# EAGLE library part SP721APP (library SolarJackets_Common)
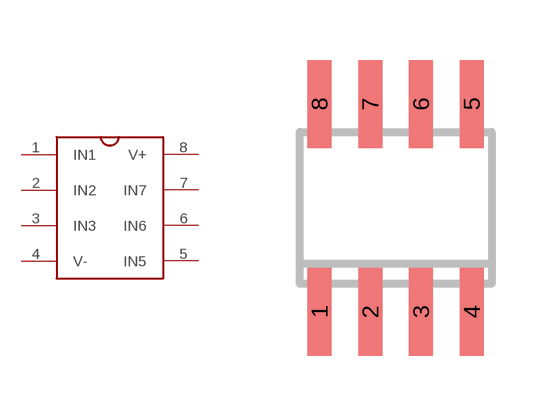
[diagram p0: symbol with the pads of SO-08; footprint SO-08]

Designator prefix -

## SP721APP  [SO-08]
1  IN1
2  IN2
3  IN3
4  V-
5  IN5
6  IN6
7  IN7
8  V+

## Footprint SO-08 (pad centres in mm)
Small Outline Narrow Plastic Gull Wing 150-mil body, package type SN
smd 0.6 x 2.2: 1 -1.905,-2.6; 2 -0.635,-2.6; 3 0.635,-2.6; 4 1.905,-2.6; 5 1.905,2.6; 6 0.635,2.6; 7 -0.635,2.6; 8 -1.905,2.6